# Altium integrated library BOOST.IntLib: 2 symbols
Pins are listed as number, name and electrical type; pins without a type are passive.

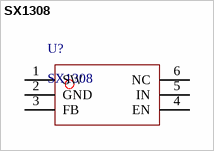
[diagram p0: symbol SX1308]

## SX1308
designator U?
footprint SX1308(SOT95P280X145-6N) (SOT23, 6-Leads, Body 3.0x3.0mm (max), Pitch 0.95mm, IPC Medium Density)
pins: 1 SW, 2 GND, 3 FB, 4 EN, 5 IN, 6 NC


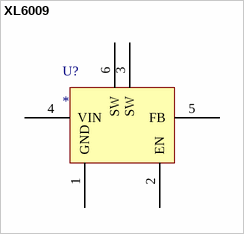
[diagram p1: symbol XL6009]

## XL6009
designator U?
footprint XL60XX(DPAK171P1524X483-6N) (D2-PAK, 6-Pads, Body 7.93x8.63mm (max), IPC Medium Density)
pins: 1 GND, 2 EN, 3 SW, 4 VIN, 5 FB, 6 SW